# Altium footprint library My_Library.PcbLib: 118 footprints (part 4 of 8)
Each footprint in its own frame and in the unit in brackets; x right, y up, seen from the top. Pads: shape width x height; smd on the part's side, far side on the other; paste and mask are expansions set on the pad; w line width, h text height; cw(c..) or ccw(c..) is an arc to the next point about the centre after c.
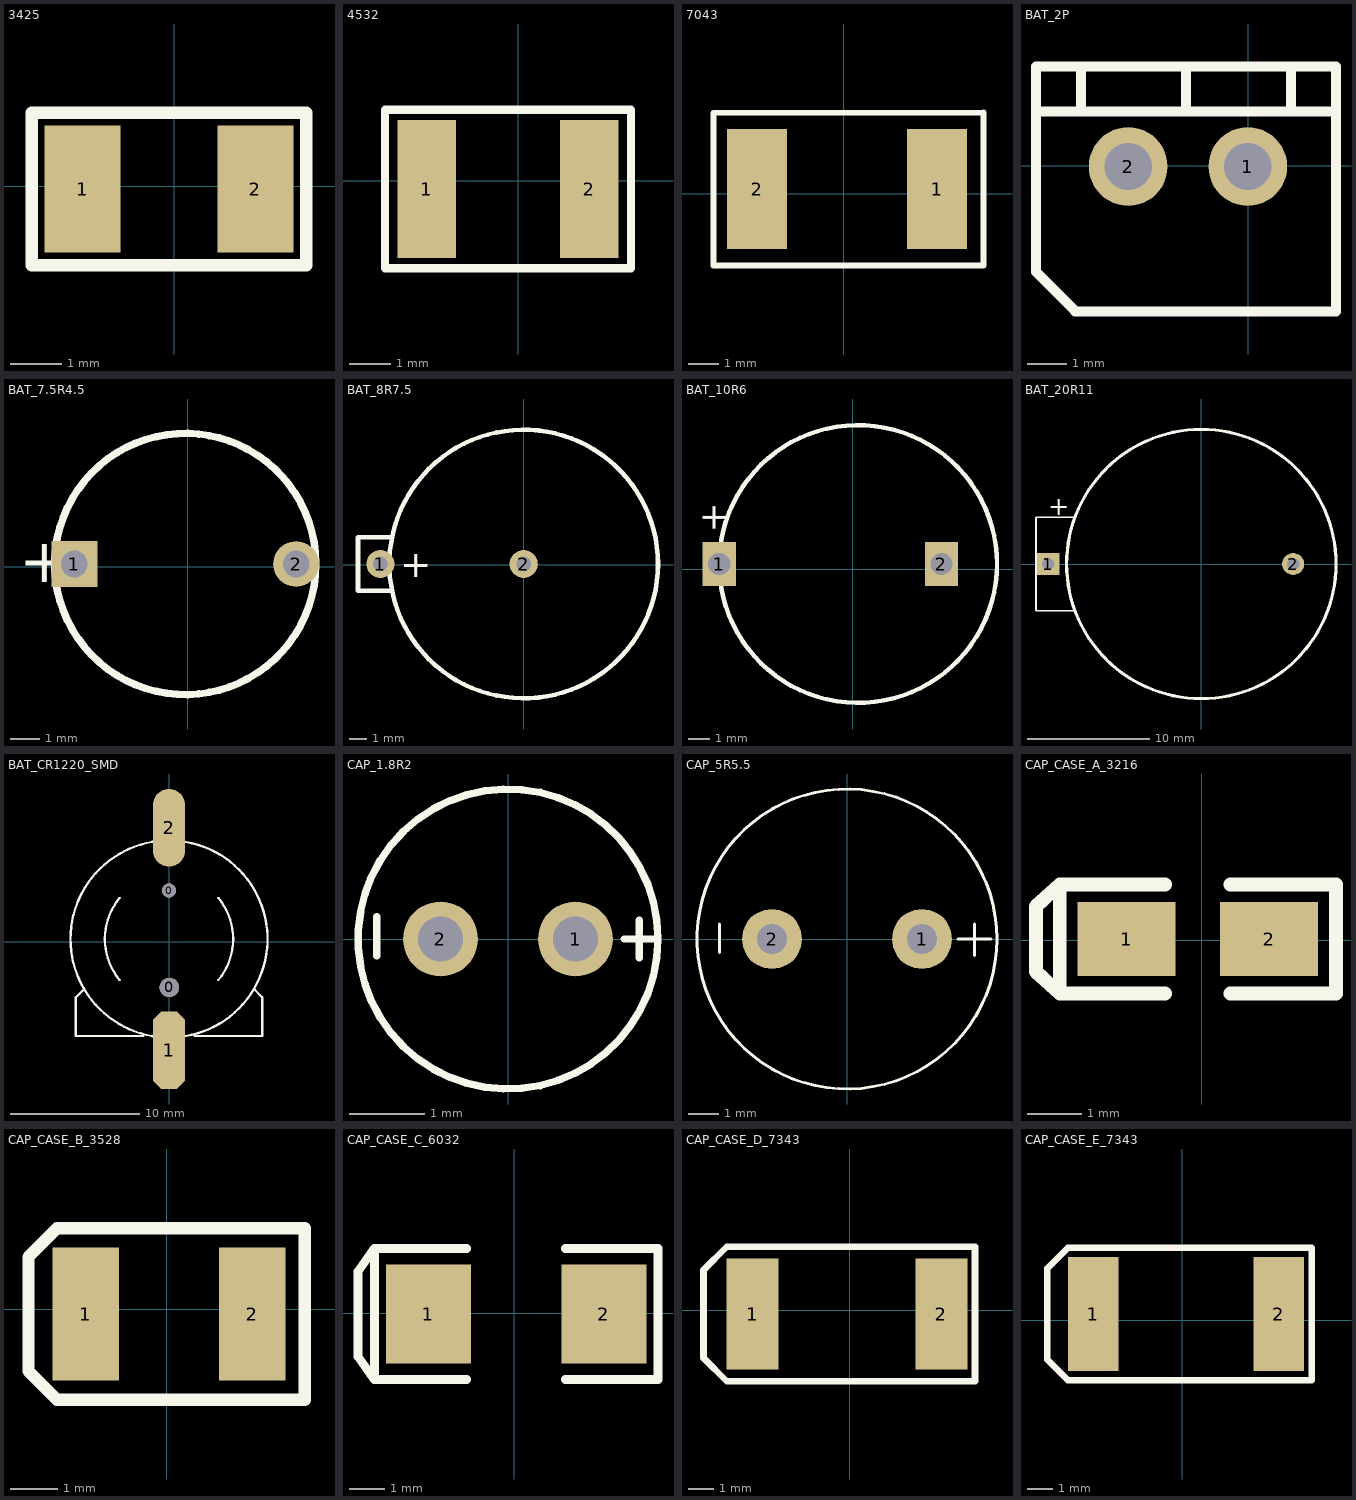
[diagram p3: the footprints below, top view; thin cyan lines are the x and y axes]

## 3425 [mm]
pads (2):
  rect 1.5x2.5 smd: 1(-1.8,-0.05) 2(1.6,-0.05)
Top Overlay:
  lines w0.254: -2.8,-1.55 -2.8,1.45 2.6,1.45 2.6,-1.55 -2.8,-1.55

## 4532 [mm]
pads (2):
  rect 1.4x3.3 smd: 1(-2.2,-0.2) 2(1.7,-0.2)
Top Overlay:
  lines w0.2: -3.2,-2.1 -3.2,1.7 2.7,1.7 2.7,-2.1 -3.2,-2.1

## 7043 [mm]
pads (2):
  rect 2x4 smd: 1(3.1,0.15) 2(-2.9,0.15)
Top Overlay:
  lines w0.2: 4.65,2.7 4.65,-2.39 -4.344,-2.39 -4.344,2.69 4.649,2.701 ; 4.649,2.701 4.65,2.7

## BAT_2P [mm]
pads (2):
  round 2 hole 1.2: 1(-0.012,-0.014) 2(-3.052,-0.014)
Top Overlay:
  lines w0.25: -5.392,-2.697 -5.392,2.526 2.228,2.526 2.228,-3.697 ; -5.392,1.383 2.228,1.383 ; -4.401,-3.697 2.219,-3.697 ; -4.249,1.383 -4.249,2.526 ; -1.582,1.383 -1.582,2.526 ; 1.085,1.383 1.085,2.526
  lines w0.254: -5.395,-2.686 -4.395,-3.686

## BAT_7.5R4.5 [mil]
pads (2):
  rect 62x62 hole 36: 1(-153.54,3.94)
  round 62 hole 36: 2(146.46,3.94)
Top Overlay:
  circle w10: c-3.54,3.94 r176.78
  text "+" at -228.54,-21.06 h60

## BAT_8R7.5 [mil]
pads (2):
  round 62 hole 32: 1(-314.96,1.97) 2(0,1.97)
Top Overlay:
  circle w10: c0,1.97 r295.28
  lines w10: -291.34,-57.09 -364.17,-57.09 -364.17,61.02 -289.37,61.02
  text "+" at -271.65,-27.56 h60

## BAT_10R6 [mil]
pads (2):
  rect 60x80 hole 40: 1(-240.16,9.84) 2(159.84,9.84)
Top Overlay:
  circle w8: c9.84,9.84 r250
  text "+" at -228.16,65.84 h47.24

## BAT_20R11 [mm]
pads (2):
  rect 1.8x1.8 hole 1: 1(-12.5,0)
  round 1.8 hole 1: 2(7.5,0)
Top Overlay:
  circle w0.254: c0,0 r11
  lines w0.127: -10.4,-3.8 -13.5,-3.8 -13.5,3.8 -10.4,3.8
  text "+" at -12.5,4 h1.52

## BAT_CR1220_SMD [mm]
pads (4):
  round 1.1 hole 1.1 unplated: 0(0,3.948)
  round 1.5 hole 1.5 unplated: 0(0.025,-3.552)
  oct 2.5x6 smd: 1(0,-8.402)
  oval 2.5x6 smd: 2(0,8.798)
Top Overlay:
  lines w0.178: -6.6,-3.702 -7.2,-4.302 -7.2,-7.302 -2,-7.302 ; -3.815,-2.971 cw(c0,0.198) -3.812,3.371 ; -0.833,-7.376 cw(c0,0.198) -7.62,0.198 cw(c0,0.198) -0.833,7.773 ; 0.833,-7.376 ccw(c0,0.198) 0.833,7.773 ; 2,-7.302 7.2,-7.302 7.2,-4.302 6.625,-3.727 ; 3.81,-2.977 ccw(c0,0.198) 3.812,3.371

## CAP_1.8R2 [mm]
pads (2):
  round 1 hole 0.6: 1(0.9,0) 2(-0.9,0)
Top Overlay:
  circle w0.1: c0,0 r2
  lines w0.1: -1.75,-0.225 -1.75,-0.1 -1.75,0.3 ; 1.55,0 2,0 ; 1.75,-0.25 1.75,0.25

## CAP_5R5.5 [mm]
pads (2):
  round 2 hole 1: 1(2.5,0) 2(-2.5,0)
Top Overlay:
  circle w0.1: c0,0 r5
  lines w0.1: -4.25,-0.45 -4.25,0.5 ; 3.7,0 4.25,0 4.8,0 ; 4.25,-0.55 4.25,0.5

## CAP_CASE_A_3216 [mm]
pads (2):
  rect 1.8x1.35 smd: 1(-1.385,0.025) 2(1.235,0.025)
Top Overlay:
  lines w0.254: -0.675,-0.977 -2.612,-0.977 ; -0.675,1.027 -2.612,1.027 ; 0.525,-0.977 2.462,-0.977 2.462,1.027 0.525,1.027 ; -2.612,-0.977 -3.048,-0.575 -3.048,0.625 -2.612,1.027 ; -2.612,-0.977 -2.612,1.027
3D body "User Library-AVX_ACASE.STEP": height 1.71, standoff 0, extent -1.775,-0.815 1.625,0.865

## CAP_CASE_B_3528 [mm]
pads (2):
  rect 1.4x2.8 smd: 1(-1.7,-0.1) 2(1.8,-0.1)
Top Overlay:
  lines w0.254: -2.3,1.7 2.9,1.7 2.9,-1.9 2.7,-1.9 -2.3,-1.9 -2.9,-1.3 -2.9,1.1 -2.3,1.7 ; -2.3,1.7 -2.3,1.7

## CAP_CASE_C_6032 [mm]
pads (2):
  rect 2.4x2.8 smd: 1(-2.43,-0.025) 2(2.53,-0.025)
Top Overlay:
  lines w0.254: -1.35,-1.875 -3.957,-1.875 ; -1.35,1.825 -3.957,1.825 ; 1.45,-1.875 4.057,-1.875 4.057,1.825 1.45,1.825 ; -3.957,-1.875 -3.957,1.825 ; -3.957,-1.875 -4.42,-1.225 -4.42,1.175 -3.957,1.825
3D body "User Library-AVX_C_CASE.STEP": height 2.7, standoff 0, extent -3,-1.7 3.1,1.65

## CAP_CASE_D_7343 [mm]
pads (2):
  rect 2x4.3 smd: 1(-3.75,-0.15) 2(3.55,-0.15)
Top Overlay:
  lines w0.254: -5.65,-1.85 -4.75,-2.75 4.85,-2.75 4.85,2.45 -4.75,2.45 -5.65,1.55 -5.65,-1.85

## CAP_CASE_E_7343 [mm]
pads (2):
  rect 2x4.5 smd: 1(-3.5,0.25) 2(3.8,0.25)
Top Overlay:
  lines w0.254: -4.5,2.85 -4.5,2.85 ; -4.5,2.85 -5.3,2.05 -5.3,-1.55 -4.5,-2.35 5.1,-2.35 5.1,2.85 -4.5,2.85 ; -4.5,2.85 -4.5,2.85